# Altium schematic symbol library TLV3511DCKR.SchLib: 1 symbol
Pins are listed as number, name and electrical type; pins without a type are passive.

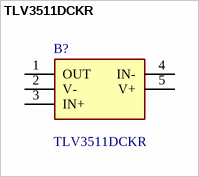
[diagram p0: symbol TLV3511DCKR]

## TLV3511DCKR
designator B?
Comparator General Purpose Push-Pull, Rail-to-Rail SC-70-5 ,2.7V ~ 5.5V ,85mA @ 5V ,2.3mV ,-40C ~ 125C ,SC-70-5; Manufacturer_Name: Texas Instruments; Geometry.Height: 1.1mm; Mouser Part Number: *; Mouser Price/Stock: *; Manufacturer_Part_Number: TLV3511DCKR; Datasheet Link: https://www.ti.com/lit/ds/symlink/tlv3511.pdf?ts=1745033266633&ref_url=https%253A%252F%252Fwww.ti.com%252Fproduct%252FTLV3511%252Fpart-details%252FTLV3511DCKR
footprint SOT65P210X110-5N
pins: 1 OUT, 2 V-, 3 IN+, 4 IN-, 5 V+